# EAGLE library part EXB-38 (library Panasonic-AON)
Resistor array 4x
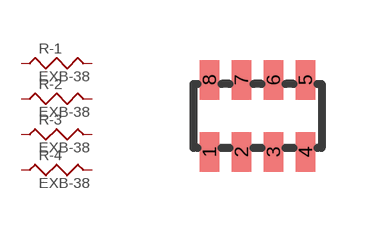
[diagram p0: symbol with the pads of 0603-ARRAY; footprint 0603-ARRAY]

Designator prefix R; gates -1=R -2=R -3=R -4=R

## EXB-38  [0603-ARRAY]
1  -1:1  pas
2  -2:1  pas
3  -3:1  pas
4  -4:1  pas
5  -4:2  pas
6  -3:2  pas
7  -2:2  pas
8  -1:2  pas

## Footprint 0603-ARRAY (pad centres in mm)
smd 0.49 x 0.99: 1 -1.2,-0.9; 2 -0.4,-0.9; 3 0.4,-0.9; 4 1.2,-0.9; 5 1.2,0.9; 6 0.4,0.9; 7 -0.4,0.9; 8 -1.2,0.9